# Altium integrated library TI Power Management Power Modules.IntLib: 831 symbols (part 19 of 44)
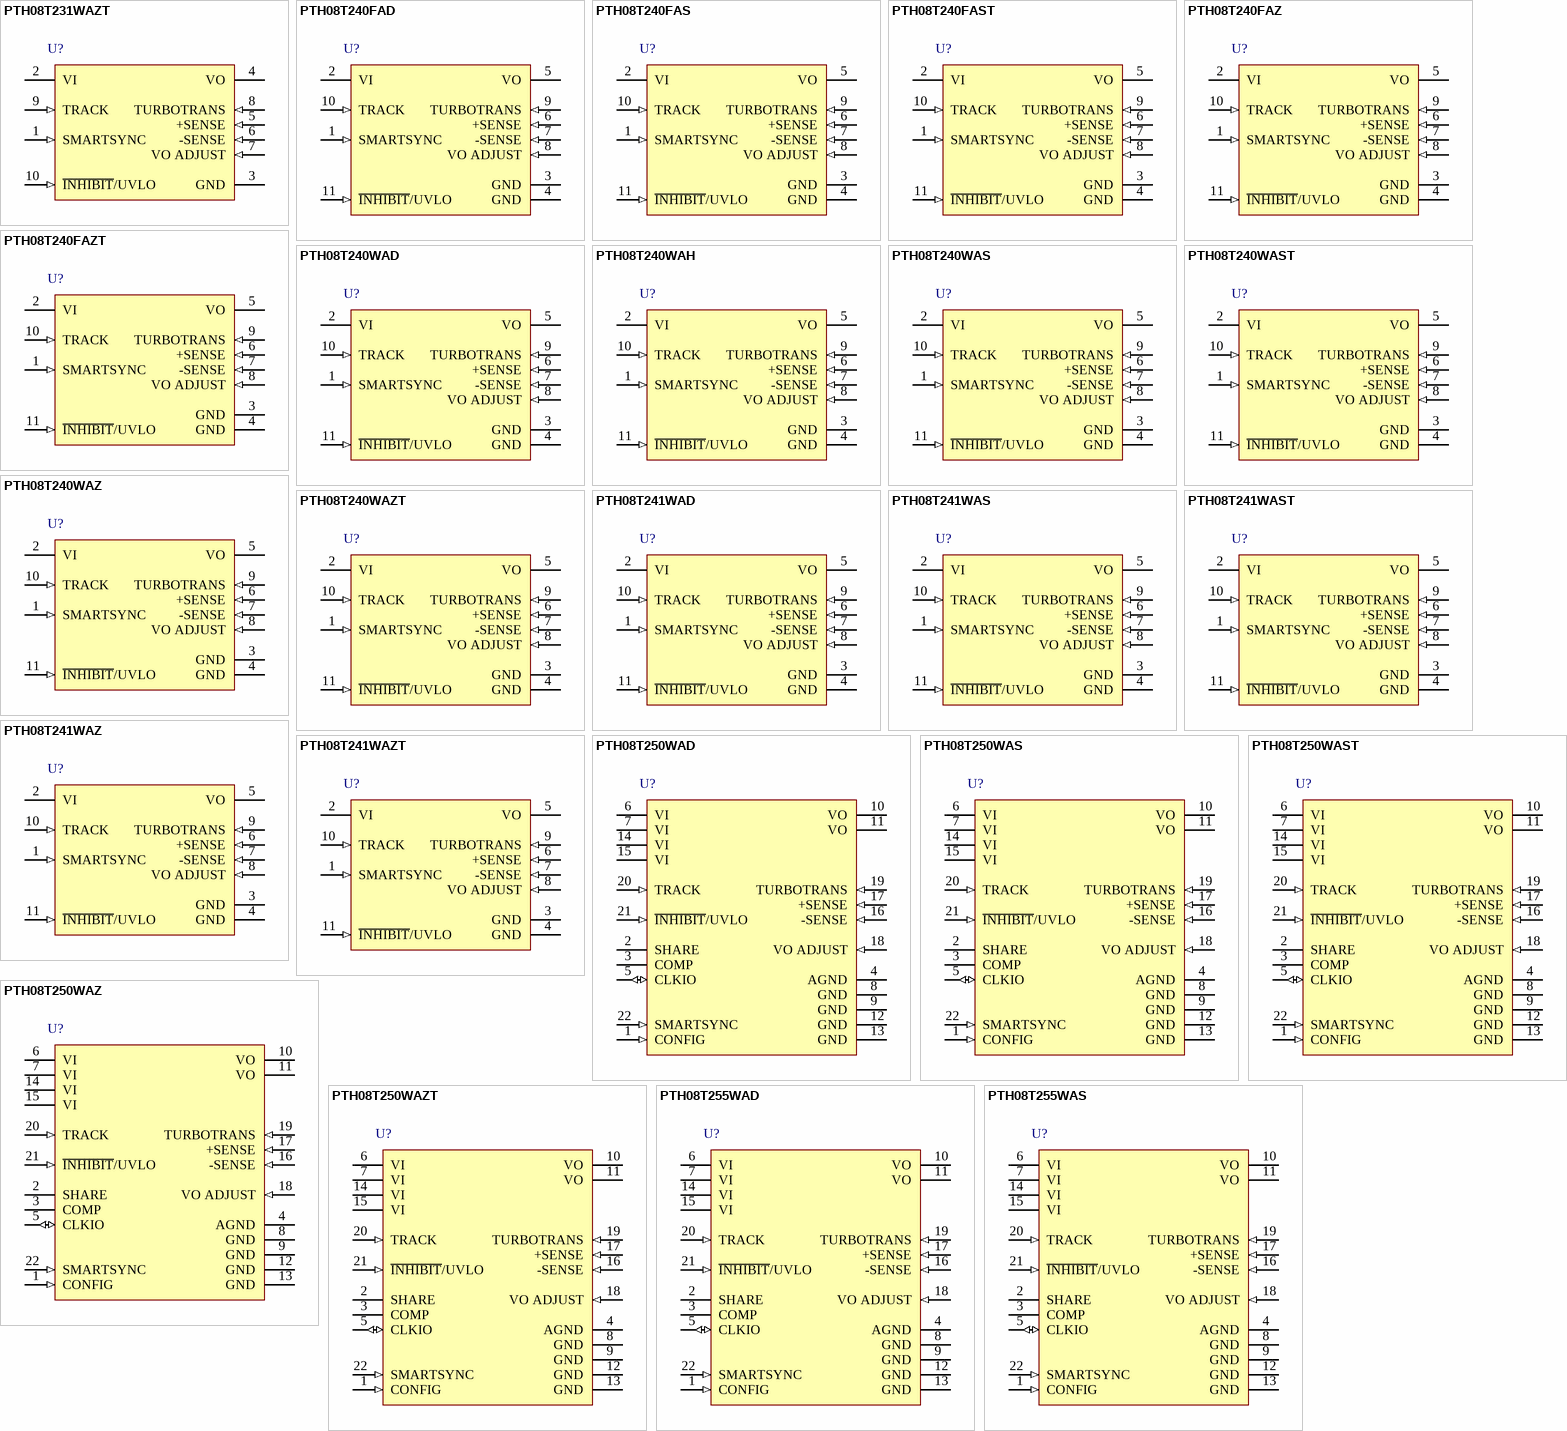
[diagram p41: symbols PTH08T231WAZT to PTH08T255WAS]

## PTH08T240WAST
designator U?
10 A, 4.5 to 14 V Input, Non-Isolated, Wide Output Adjustable Power Module with TurboTrans, -40 to 85 degC, 11-pin Module (EBT11); Manufacturer: Texas Instruments; PartNumber: PTH08T240WAST; Eco-Plan: TBD; Iout(Max)(A): 10; Regulated Outputs(#): 1; SubFamily: Non-Isolated POL; Vin(Max)(V): 14; Vin(Min)(V): 4.5; VO Adjustable: TRUE; Vout(Max)(V): 5.5; Vout(Min)(V): 0.69; DatasheetVersion: SLTS264J; PackageVersion: 4207366/E; PackageReference: EBT11; PackageDescription: 11-Pin Plastic Special Shape, Body 15.75 x 22.1 mm; Supplier 1: Digi-Key; Supplier Part Number 1: PTH08T240WAST-ND; Supplier 2: Newark; Supplier Part Number 2: 71K9428; Supplier 3: Mouser; Supplier Part Number 3: 595-PTH08T240WAST; Mounting Technology: Surface Mount; ComponentLink1Description: Manufacturer URL; ComponentLink1URL: http://www.ti.com/; ComponentLink2Description: Datasheet; ComponentLink2URL: http://www.ti.com/general/docs/lit/getliterature.tsp?genericPartNumber=PTH08T240W&fileType=pdf; ComponentLink3Description: Package Specification; ComponentLink3URL: http://www.ti.com/litv/pdf/mpds231d; ComponentLink4Description: URL Link1; ComponentLink4URL: Samples URL:http://www.ti.com/product/pth08t240w#samples
footprint TI-EBT11_V (Module, 11-Leads, Body 22.1x15.75mm)
pins: 1 SMARTSYNC (in) "This input pin sychronizes the switching frequency of the module to an external clock frequency. The SmartSync feature can be used to sychronize the switching fequency of multiple PTH08T220/221W modules, aiding EMI noise (See Datasheet)", 2 VI (power) "The positive input voltage power node to the module, which is referenced to common GND.", 3 GND (power) "This is the common ground connection for the VI and VO power connections. It is also the 0 Vdc reference for the control inputs.", 4 GND (power) "This is the common ground connection for the VI and VO power connections. It is also the 0 Vdc reference for the control inputs.", 5 VO (power) "The regulated positive power output with respect to GND.", 6 +SENSE (in) "The sense input allows the regulation circuit to compensate for voltage drop between the module and the load. For optimal voltage accuracy, +Sense must be connected to VO, very close to the load.", 7 -SENSE (in) "The sense input allows the regulation circuit to compensate for voltage drop between the module and the load. For optimal voltage accuracy -Sense must be connected to GND (pin4) very close to the module (within 10cm).", 8 VO ADJUST (in) "A 0.05 W 1% resistor must be directly connected between this pin and pin7 (-Sense) to set the output voltage to a value higher than 0.69V. The temperature stability of the resistor should be 100 ppm/degreesC (or better). The (See Datasheet)", 9 TURBOTRANS (in) "This input pin adjusts the transient response of the regulator. To activate the TurboTrans? feature, a 1%, 50mW resistor must be connected between this pin and pin 6 (+Sense) very close to the module. For a given value of (See Datasheet)", 10 TRACK (in) "This is an analog control input that enables the output voltage to follow an external voltage. This pin becomes active typically 20 ms after the input voltage has been applied, and allows direct control of the output voltage (See Datasheet)", 11 ~{INHIBIT}/UVLO (in) "The Inhibit pin is an open-collector/drain, negative logic input that is referenced to GND. Applying a low level ground signal to this input disables the module’s output and turns off the output voltage. When the Inhibit (See Datasheet)"

## PTH08T240WAZ
designator U?
10 A, 4.5 to 14 V Input, Non-Isolated, Wide Output Adjustable Power Module with TurboTrans, -40 to 85 degC, 11-pin Module (BBT11), Pb-Free (RoHS); Manufacturer: Texas Instruments; PartNumber: PTH08T240WAZ; Iout(Max)(A): 10; Regulated Outputs(#): 1; SubFamily: Non-Isolated POL; Vin(Max)(V): 14; Vin(Min)(V): 4.5; VO Adjustable: TRUE; Vout(Max)(V): 5.5; Vout(Min)(V): 0.69; DatasheetVersion: SLTS264J; PackageVersion: 4207716/E; PackageReference: BBT11; PackageDescription: 11-Pin Plastic Special Shape, Body 15.75 x 22.1 mm; Supplier 1: Digi-Key; Supplier Part Number 1: 296-20445-ND; Supplier 2: Farnell; Supplier Part Number 2: 1704192; Supplier 3: Newark; Supplier Part Number 3: 71K9429; Supplier 4: Mouser; Supplier Part Number 4: 595-PTH08T240WAZ; Eco-Plan: Pb-Free (RoHS); Mounting Technology: Surface Mount; ComponentLink1Description: Manufacturer URL; ComponentLink1URL: http://www.ti.com/; ComponentLink2Description: Datasheet; ComponentLink2URL: http://www.ti.com/general/docs/lit/getliterature.tsp?genericPartNumber=PTH08T240W&fileType=pdf; ComponentLink3Description: Package Specification; ComponentLink3URL: http://www.ti.com/lit/ml/mpds265d/mpds265d.pdf; ComponentLink4Description: URL Link1; ComponentLink4URL: Samples URL:http://www.ti.com/product/pth08t240w#samples
footprint TI-BBT11_V (11-Leads Double Sided Module, Body 22.1x15.75mm)
pins: 1 SMARTSYNC (in) "This input pin sychronizes the switching frequency of the module to an external clock frequency. The SmartSync feature can be used to sychronize the switching fequency of multiple PTH08T220/221W modules, aiding EMI noise (See Datasheet)", 2 VI (power) "The positive input voltage power node to the module, which is referenced to common GND.", 3 GND (power) "This is the common ground connection for the VI and VO power connections. It is also the 0 Vdc reference for the control inputs.", 4 GND (power) "This is the common ground connection for the VI and VO power connections. It is also the 0 Vdc reference for the control inputs.", 5 VO (power) "The regulated positive power output with respect to GND.", 6 +SENSE (in) "The sense input allows the regulation circuit to compensate for voltage drop between the module and the load. For optimal voltage accuracy, +Sense must be connected to VO, very close to the load.", 7 -SENSE (in) "The sense input allows the regulation circuit to compensate for voltage drop between the module and the load. For optimal voltage accuracy -Sense must be connected to GND (pin4) very close to the module (within 10cm).", 8 VO ADJUST (in) "A 0.05 W 1% resistor must be directly connected between this pin and pin7 (-Sense) to set the output voltage to a value higher than 0.69V. The temperature stability of the resistor should be 100 ppm/degreesC (or better). The (See Datasheet)", 9 TURBOTRANS (in) "This input pin adjusts the transient response of the regulator. To activate the TurboTrans? feature, a 1%, 50mW resistor must be connected between this pin and pin 6 (+Sense) very close to the module. For a given value of (See Datasheet)", 10 TRACK (in) "This is an analog control input that enables the output voltage to follow an external voltage. This pin becomes active typically 20 ms after the input voltage has been applied, and allows direct control of the output voltage (See Datasheet)", 11 ~{INHIBIT}/UVLO (in) "The Inhibit pin is an open-collector/drain, negative logic input that is referenced to GND. Applying a low level ground signal to this input disables the module’s output and turns off the output voltage. When the Inhibit (See Datasheet)"

## PTH08T240WAZT
designator U?
10 A, 4.5 to 14 V Input, Non-Isolated, Wide Output Adjustable Power Module with TurboTrans, -40 to 85 degC, 11-pin Module (BBT11), Pb-Free (RoHS); Manufacturer: Texas Instruments; PartNumber: PTH08T240WAZT; Iout(Max)(A): 10; Regulated Outputs(#): 1; SubFamily: Non-Isolated POL; Vin(Max)(V): 14; Vin(Min)(V): 4.5; VO Adjustable: TRUE; Vout(Max)(V): 5.5; Vout(Min)(V): 0.69; DatasheetVersion: SLTS264J; PackageVersion: 4207716/E; PackageReference: BBT11; PackageDescription: 11-Pin Plastic Special Shape, Body 15.75 x 22.1 mm; Supplier 1: Digi-Key; Supplier Part Number 1: 296-26312-2-ND; Supplier 2: Digi-Key; Supplier Part Number 2: 296-26312-1-ND; Supplier 3: Digi-Key; Supplier Part Number 3: 296-26312-6-ND; Supplier 4: Newark; Supplier Part Number 4: 71K9430; Supplier 5: Mouser; Supplier Part Number 5: 595-PTH08T240WAZT; Eco-Plan: Pb-Free (RoHS); Mounting Technology: Surface Mount; ComponentLink1Description: Manufacturer URL; ComponentLink1URL: http://www.ti.com/; ComponentLink2Description: Datasheet; ComponentLink2URL: http://www.ti.com/general/docs/lit/getliterature.tsp?genericPartNumber=PTH08T240W&fileType=pdf; ComponentLink3Description: Package Specification; ComponentLink3URL: http://www.ti.com/lit/ml/mpds265d/mpds265d.pdf; ComponentLink4Description: URL Link1; ComponentLink4URL: Samples URL:http://www.ti.com/product/tps55010#samples
footprint TI-BBT11_V (11-Leads Double Sided Module, Body 22.1x15.75mm)
pins: 1 SMARTSYNC (in) "This input pin sychronizes the switching frequency of the module to an external clock frequency. The SmartSync feature can be used to sychronize the switching fequency of multiple PTH08T220/221W modules, aiding EMI noise (See Datasheet)", 2 VI (power) "The positive input voltage power node to the module, which is referenced to common GND.", 3 GND (power) "This is the common ground connection for the VI and VO power connections. It is also the 0 Vdc reference for the control inputs.", 4 GND (power) "This is the common ground connection for the VI and VO power connections. It is also the 0 Vdc reference for the control inputs.", 5 VO (power) "The regulated positive power output with respect to GND.", 6 +SENSE (in) "The sense input allows the regulation circuit to compensate for voltage drop between the module and the load. For optimal voltage accuracy, +Sense must be connected to VO, very close to the load.", 7 -SENSE (in) "The sense input allows the regulation circuit to compensate for voltage drop between the module and the load. For optimal voltage accuracy -Sense must be connected to GND (pin4) very close to the module (within 10cm).", 8 VO ADJUST (in) "A 0.05 W 1% resistor must be directly connected between this pin and pin7 (-Sense) to set the output voltage to a value higher than 0.69V. The temperature stability of the resistor should be 100 ppm/degreesC (or better). The (See Datasheet)", 9 TURBOTRANS (in) "This input pin adjusts the transient response of the regulator. To activate the TurboTrans? feature, a 1%, 50mW resistor must be connected between this pin and pin 6 (+Sense) very close to the module. For a given value of (See Datasheet)", 10 TRACK (in) "This is an analog control input that enables the output voltage to follow an external voltage. This pin becomes active typically 20 ms after the input voltage has been applied, and allows direct control of the output voltage (See Datasheet)", 11 ~{INHIBIT}/UVLO (in) "The Inhibit pin is an open-collector/drain, negative logic input that is referenced to GND. Applying a low level ground signal to this input disables the module’s output and turns off the output voltage. When the Inhibit (See Datasheet)"

## PTH08T241WAD
designator U?
10 A, 4.5 to 14 V Input, Ceramic Cap Version, Non-Iso, Wide Output Adj Power Module with TurboTrans, -40 to 85 degC, 11-pin Module (EBS11), Pb-Free (RoHS); Manufacturer: Texas Instruments; PartNumber: PTH08T241WAD; Iout(Max)(A): 10; Regulated Outputs(#): 1; SubFamily: Non-Isolated POL; Vin(Max)(V): 14; Vin(Min)(V): 4.5; VO Adjustable: TRUE; Vout(Max)(V): 5.5; Vout(Min)(V): 0.69; DatasheetVersion: SLTS264J; PackageVersion: 4207365/D; PackageReference: EBS11; PackageDescription: 11-Pin Plastic Special Shape, Body 15.75 x 22.1 mm; Supplier 1: Digi-Key; Supplier Part Number 1: 296-21337-ND; Supplier 2: Newark; Supplier Part Number 2: 22M1622; Supplier 3: Mouser; Supplier Part Number 3: 595-PTH08T241WAD; Eco-Plan: Pb-Free (RoHS); Mounting Technology: Through Hole; ComponentLink1Description: Manufacturer URL; ComponentLink1URL: http://www.ti.com/; ComponentLink2Description: Datasheet; ComponentLink2URL: http://www.ti.com/general/docs/lit/getliterature.tsp?genericPartNumber=PTH08T241W&fileType=pdf; ComponentLink3Description: Package Specification; ComponentLink3URL: http://www.ti.com/litv/pdf/mpds230c; ComponentLink4Description: URL Link1; ComponentLink4URL: Samples URL:http://www.ti.com/product/pth08t241w#samples
footprint TI-EBS11_V (Module, 11-Leads, Body 22.1x15.75mm)
pins: 1 SMARTSYNC (in) "This input pin sychronizes the switching frequency of the module to an external clock frequency. The SmartSync feature can be used to sychronize the switching fequency of multiple PTH08T220/221W modules, aiding EMI noise (See Datasheet)", 2 VI (power) "The positive input voltage power node to the module, which is referenced to common GND.", 3 GND (power) "This is the common ground connection for the VI and VO power connections. It is also the 0 Vdc reference for the control inputs.", 4 GND (power) "This is the common ground connection for the VI and VO power connections. It is also the 0 Vdc reference for the control inputs.", 5 VO (power) "The regulated positive power output with respect to GND.", 6 +SENSE (in) "The sense input allows the regulation circuit to compensate for voltage drop between the module and the load. For optimal voltage accuracy, +Sense must be connected to VO, very close to the load.", 7 -SENSE (in) "The sense input allows the regulation circuit to compensate for voltage drop between the module and the load. For optimal voltage accuracy -Sense must be connected to GND (pin4) very close to the module (within 10cm).", 8 VO ADJUST (in) "A 0.05 W 1% resistor must be directly connected between this pin and pin7 (-Sense) to set the output voltage to a value higher than 0.69V. The temperature stability of the resistor should be 100 ppm/degreesC (or better). The (See Datasheet)", 9 TURBOTRANS (in) "This input pin adjusts the transient response of the regulator. To activate the TurboTrans? feature, a 1%, 50mW resistor must be connected between this pin and pin 6 (+Sense) very close to the module. For a given value of (See Datasheet)", 10 TRACK (in) "This is an analog control input that enables the output voltage to follow an external voltage. This pin becomes active typically 20 ms after the input voltage has been applied, and allows direct control of the output voltage (See Datasheet)", 11 ~{INHIBIT}/UVLO (in) "The Inhibit pin is an open-collector/drain, negative logic input that is referenced to GND. Applying a low level ground signal to this input disables the module’s output and turns off the output voltage. When the Inhibit (See Datasheet)"

## PTH08T241WAS
designator U?
10 A, 4.5 to 14 V Input, Ceramic Cap Version, Non-Iso, Wide Output Adj Power Module with TurboTrans, -40 to 85 degC, 11-pin Module (EBT11); Manufacturer: Texas Instruments; PartNumber: PTH08T241WAS; Eco-Plan: TBD; Iout(Max)(A): 10; Regulated Outputs(#): 1; SubFamily: Non-Isolated POL; Vin(Max)(V): 14; Vin(Min)(V): 4.5; VO Adjustable: TRUE; Vout(Max)(V): 5.5; Vout(Min)(V): 0.69; DatasheetVersion: SLTS264J; PackageVersion: 4207366/E; PackageReference: EBT11; PackageDescription: 11-Pin Plastic Special Shape, Body 15.75 x 22.1 mm; Supplier 1: Digi-Key; Supplier Part Number 1: 296-21338-ND; Supplier 2: Newark; Supplier Part Number 2: 22M1623; Supplier 3: Mouser; Supplier Part Number 3: 595-PTH08T241WAS; Mounting Technology: Surface Mount; ComponentLink1Description: Manufacturer URL; ComponentLink1URL: http://www.ti.com/; ComponentLink2Description: Datasheet; ComponentLink2URL: http://www.ti.com/general/docs/lit/getliterature.tsp?genericPartNumber=PTH08T241W&fileType=pdf; ComponentLink3Description: Package Specification; ComponentLink3URL: http://www.ti.com/litv/pdf/mpds231d; ComponentLink4Description: URL Link1; ComponentLink4URL: Samples URL:http://www.ti.com/product/pth08t241w#samples
footprint TI-EBT11_V (Module, 11-Leads, Body 22.1x15.75mm)
pins: 1 SMARTSYNC (in) "This input pin sychronizes the switching frequency of the module to an external clock frequency. The SmartSync feature can be used to sychronize the switching fequency of multiple PTH08T220/221W modules, aiding EMI noise (See Datasheet)", 2 VI (power) "The positive input voltage power node to the module, which is referenced to common GND.", 3 GND (power) "This is the common ground connection for the VI and VO power connections. It is also the 0 Vdc reference for the control inputs.", 4 GND (power) "This is the common ground connection for the VI and VO power connections. It is also the 0 Vdc reference for the control inputs.", 5 VO (power) "The regulated positive power output with respect to GND.", 6 +SENSE (in) "The sense input allows the regulation circuit to compensate for voltage drop between the module and the load. For optimal voltage accuracy, +Sense must be connected to VO, very close to the load.", 7 -SENSE (in) "The sense input allows the regulation circuit to compensate for voltage drop between the module and the load. For optimal voltage accuracy -Sense must be connected to GND (pin4) very close to the module (within 10cm).", 8 VO ADJUST (in) "A 0.05 W 1% resistor must be directly connected between this pin and pin7 (-Sense) to set the output voltage to a value higher than 0.69V. The temperature stability of the resistor should be 100 ppm/degreesC (or better). The (See Datasheet)", 9 TURBOTRANS (in) "This input pin adjusts the transient response of the regulator. To activate the TurboTrans? feature, a 1%, 50mW resistor must be connected between this pin and pin 6 (+Sense) very close to the module. For a given value of (See Datasheet)", 10 TRACK (in) "This is an analog control input that enables the output voltage to follow an external voltage. This pin becomes active typically 20 ms after the input voltage has been applied, and allows direct control of the output voltage (See Datasheet)", 11 ~{INHIBIT}/UVLO (in) "The Inhibit pin is an open-collector/drain, negative logic input that is referenced to GND. Applying a low level ground signal to this input disables the module’s output and turns off the output voltage. When the Inhibit (See Datasheet)"

## PTH08T241WAST
designator U?
10 A, 4.5 to 14 V Input, Ceramic Cap Version, Non-Iso, Wide Output Adj Power Module with TurboTrans, -40 to 85 degC, 11-pin Module (EBT11); Manufacturer: Texas Instruments; PartNumber: PTH08T241WAST; Eco-Plan: TBD; Iout(Max)(A): 10; Regulated Outputs(#): 1; SubFamily: Non-Isolated POL; Vin(Max)(V): 14; Vin(Min)(V): 4.5; VO Adjustable: TRUE; Vout(Max)(V): 5.5; Vout(Min)(V): 0.69; DatasheetVersion: SLTS264J; PackageVersion: 4207366/E; PackageReference: EBT11; PackageDescription: 11-Pin Plastic Special Shape, Body 15.75 x 22.1 mm; Supplier 1: Digi-Key; Supplier Part Number 1: PTH08T241WAST-ND; Supplier 2: Newark; Supplier Part Number 2: 22M1624; Supplier 3: Mouser; Supplier Part Number 3: 595-PTH08T241WAST; Mounting Technology: Surface Mount; ComponentLink1Description: Manufacturer URL; ComponentLink1URL: http://www.ti.com/; ComponentLink2Description: Datasheet; ComponentLink2URL: http://www.ti.com/general/docs/lit/getliterature.tsp?genericPartNumber=PTH08T241W&fileType=pdf; ComponentLink3Description: Package Specification; ComponentLink3URL: http://www.ti.com/litv/pdf/mpds231d; ComponentLink4Description: URL Link1; ComponentLink4URL: Samples URL:http://www.ti.com/product/pth08t241w#samples
footprint TI-EBT11_V (Module, 11-Leads, Body 22.1x15.75mm)
pins: 1 SMARTSYNC (in) "This input pin sychronizes the switching frequency of the module to an external clock frequency. The SmartSync feature can be used to sychronize the switching fequency of multiple PTH08T220/221W modules, aiding EMI noise (See Datasheet)", 2 VI (power) "The positive input voltage power node to the module, which is referenced to common GND.", 3 GND (power) "This is the common ground connection for the VI and VO power connections. It is also the 0 Vdc reference for the control inputs.", 4 GND (power) "This is the common ground connection for the VI and VO power connections. It is also the 0 Vdc reference for the control inputs.", 5 VO (power) "The regulated positive power output with respect to GND.", 6 +SENSE (in) "The sense input allows the regulation circuit to compensate for voltage drop between the module and the load. For optimal voltage accuracy, +Sense must be connected to VO, very close to the load.", 7 -SENSE (in) "The sense input allows the regulation circuit to compensate for voltage drop between the module and the load. For optimal voltage accuracy -Sense must be connected to GND (pin4) very close to the module (within 10cm).", 8 VO ADJUST (in) "A 0.05 W 1% resistor must be directly connected between this pin and pin7 (-Sense) to set the output voltage to a value higher than 0.69V. The temperature stability of the resistor should be 100 ppm/degreesC (or better). The (See Datasheet)", 9 TURBOTRANS (in) "This input pin adjusts the transient response of the regulator. To activate the TurboTrans? feature, a 1%, 50mW resistor must be connected between this pin and pin 6 (+Sense) very close to the module. For a given value of (See Datasheet)", 10 TRACK (in) "This is an analog control input that enables the output voltage to follow an external voltage. This pin becomes active typically 20 ms after the input voltage has been applied, and allows direct control of the output voltage (See Datasheet)", 11 ~{INHIBIT}/UVLO (in) "The Inhibit pin is an open-collector/drain, negative logic input that is referenced to GND. Applying a low level ground signal to this input disables the module’s output and turns off the output voltage. When the Inhibit (See Datasheet)"

## PTH08T241WAZ
designator U?
10 A, 4.5 to 14 V Input, Ceramic Cap Version, Non-Iso, Wide Output Adj Power Module with TurboTrans, -40 to 85 degC, 11-pin Module (BBT11), Pb-Free (RoHS); Manufacturer: Texas Instruments; PartNumber: PTH08T241WAZ; Iout(Max)(A): 10; Regulated Outputs(#): 1; SubFamily: Non-Isolated POL; Vin(Max)(V): 14; Vin(Min)(V): 4.5; VO Adjustable: TRUE; Vout(Max)(V): 5.5; Vout(Min)(V): 0.69; DatasheetVersion: SLTS264J; PackageVersion: 4207716/E; PackageReference: BBT11; PackageDescription: 11-Pin Plastic Special Shape, Body 15.75 x 22.1 mm; Supplier 1: Digi-Key; Supplier Part Number 1: 296-21339-ND; Supplier 2: Newark; Supplier Part Number 2: 22M1625; Supplier 3: Mouser; Supplier Part Number 3: 595-PTH08T241WAZ; Eco-Plan: Pb-Free (RoHS); Mounting Technology: Surface Mount; ComponentLink1Description: Manufacturer URL; ComponentLink1URL: http://www.ti.com/; ComponentLink2Description: Datasheet; ComponentLink2URL: http://www.ti.com/general/docs/lit/getliterature.tsp?genericPartNumber=PTH08T241W&fileType=pdf; ComponentLink3Description: Package Specification; ComponentLink3URL: http://www.ti.com/lit/ml/mpds265d/mpds265d.pdf; ComponentLink4Description: URL Link1; ComponentLink4URL: Samples URL:http://www.ti.com/product/pth08t241w#samples
footprint TI-BBT11_V (11-Leads Double Sided Module, Body 22.1x15.75mm)
pins: 1 SMARTSYNC (in) "This input pin sychronizes the switching frequency of the module to an external clock frequency. The SmartSync feature can be used to sychronize the switching fequency of multiple PTH08T220/221W modules, aiding EMI noise (See Datasheet)", 2 VI (power) "The positive input voltage power node to the module, which is referenced to common GND.", 3 GND (power) "This is the common ground connection for the VI and VO power connections. It is also the 0 Vdc reference for the control inputs.", 4 GND (power) "This is the common ground connection for the VI and VO power connections. It is also the 0 Vdc reference for the control inputs.", 5 VO (power) "The regulated positive power output with respect to GND.", 6 +SENSE (in) "The sense input allows the regulation circuit to compensate for voltage drop between the module and the load. For optimal voltage accuracy, +Sense must be connected to VO, very close to the load.", 7 -SENSE (in) "The sense input allows the regulation circuit to compensate for voltage drop between the module and the load. For optimal voltage accuracy -Sense must be connected to GND (pin4) very close to the module (within 10cm).", 8 VO ADJUST (in) "A 0.05 W 1% resistor must be directly connected between this pin and pin7 (-Sense) to set the output voltage to a value higher than 0.69V. The temperature stability of the resistor should be 100 ppm/degreesC (or better). The (See Datasheet)", 9 TURBOTRANS (in) "This input pin adjusts the transient response of the regulator. To activate the TurboTrans? feature, a 1%, 50mW resistor must be connected between this pin and pin 6 (+Sense) very close to the module. For a given value of (See Datasheet)", 10 TRACK (in) "This is an analog control input that enables the output voltage to follow an external voltage. This pin becomes active typically 20 ms after the input voltage has been applied, and allows direct control of the output voltage (See Datasheet)", 11 ~{INHIBIT}/UVLO (in) "The Inhibit pin is an open-collector/drain, negative logic input that is referenced to GND. Applying a low level ground signal to this input disables the module’s output and turns off the output voltage. When the Inhibit (See Datasheet)"

## PTH08T241WAZT
designator U?
10 A, 4.5 to 14 V Input, Ceramic Cap Version, Non-Iso, Wide Output Adj Power Module with TurboTrans, -40 to 85 degC, 11-pin Module (BBT11), Pb-Free (RoHS); Manufacturer: Texas Instruments; PartNumber: PTH08T241WAZT; Iout(Max)(A): 10; Regulated Outputs(#): 1; SubFamily: 1 W & 2 W Miniature; Vin(Max)(V): 14; Vin(Min)(V): 4.5; VO Adjustable: TRUE; Vout(Max)(V): 5.5; Vout(Min)(V): 0.69; DatasheetVersion: SLTS264J; PackageVersion: 4207716/E; PackageReference: BBT11; PackageDescription: 11-Pin Plastic Special Shape, Body 15.75 x 22.1 mm; Supplier 1: Digi-Key; Supplier Part Number 1: PTH08T241WAZT-ND; Supplier 2: Newark; Supplier Part Number 2: 22M1626; Supplier 3: Mouser; Supplier Part Number 3: 595-PTH08T241WAZT; Eco-Plan: Pb-Free (RoHS); Mounting Technology: Surface Mount; ComponentLink1Description: Manufacturer URL; ComponentLink1URL: http://www.ti.com/; ComponentLink2Description: Datasheet; ComponentLink2URL: http://www.ti.com/general/docs/lit/getliterature.tsp?genericPartNumber=PTH08T241W&fileType=pdf; ComponentLink3Description: Package Specification; ComponentLink3URL: http://www.ti.com/lit/ml/mpds265d/mpds265d.pdf; ComponentLink4Description: URL Link1; ComponentLink4URL: Samples URL:http://www.ti.com/product/tps55010#samples
footprint TI-BBT11_V (11-Leads Double Sided Module, Body 22.1x15.75mm)
pins: 1 SMARTSYNC (in) "This input pin sychronizes the switching frequency of the module to an external clock frequency. The SmartSync feature can be used to sychronize the switching fequency of multiple PTH08T220/221W modules, aiding EMI noise (See Datasheet)", 2 VI (power) "The positive input voltage power node to the module, which is referenced to common GND.", 3 GND (power) "This is the common ground connection for the VI and VO power connections. It is also the 0 Vdc reference for the control inputs.", 4 GND (power) "This is the common ground connection for the VI and VO power connections. It is also the 0 Vdc reference for the control inputs.", 5 VO (power) "The regulated positive power output with respect to GND.", 6 +SENSE (in) "The sense input allows the regulation circuit to compensate for voltage drop between the module and the load. For optimal voltage accuracy, +Sense must be connected to VO, very close to the load.", 7 -SENSE (in) "The sense input allows the regulation circuit to compensate for voltage drop between the module and the load. For optimal voltage accuracy -Sense must be connected to GND (pin4) very close to the module (within 10cm).", 8 VO ADJUST (in) "A 0.05 W 1% resistor must be directly connected between this pin and pin7 (-Sense) to set the output voltage to a value higher than 0.69V. The temperature stability of the resistor should be 100 ppm/degreesC (or better). The (See Datasheet)", 9 TURBOTRANS (in) "This input pin adjusts the transient response of the regulator. To activate the TurboTrans? feature, a 1%, 50mW resistor must be connected between this pin and pin 6 (+Sense) very close to the module. For a given value of (See Datasheet)", 10 TRACK (in) "This is an analog control input that enables the output voltage to follow an external voltage. This pin becomes active typically 20 ms after the input voltage has been applied, and allows direct control of the output voltage (See Datasheet)", 11 ~{INHIBIT}/UVLO (in) "The Inhibit pin is an open-collector/drain, negative logic input that is referenced to GND. Applying a low level ground signal to this input disables the module’s output and turns off the output voltage. When the Inhibit (See Datasheet)"

## PTH08T250WAD
designator U?
50 A, 4.5 to 14 V Input, Non-Isolated, Wide Output, Adjustable Power Module with TurboTrans, -40 to 85 degC, 22-pin Module (ECT22), Pb-Free (RoHS); Manufacturer: Texas Instruments; PartNumber: PTH08T250WAD; Iout(Max)(A): 50; Regulated Outputs(#): 1; SubFamily: Non-Isolated POL; Vin(Max)(V): 14; Vin(Min)(V): 4.5; VO Adjustable: TRUE; Vout(Max)(V): 3.6; Vout(Min)(V): 0.7; DatasheetVersion: SLTS278G; PackageVersion: 4208554/C; PackageReference: ECT22; PackageDescription: 22-Pin Plastic Special Shape, Body 25.91 x 38.61 mm; Supplier 1: Digi-Key; Supplier Part Number 1: 296-22037-ND; Supplier 2: Newark; Supplier Part Number 2: 53M3841; Supplier 3: Mouser; Supplier Part Number 3: 595-PTH08T250WAD; Eco-Plan: Pb-Free (RoHS); Mounting Technology: Through Hole; ComponentLink1Description: Manufacturer URL; ComponentLink1URL: http://www.ti.com/; ComponentLink2Description: Datasheet; ComponentLink2URL: http://www.ti.com/general/docs/lit/getliterature.tsp?genericPartNumber=PTH08T250W&fileType=pdf; ComponentLink3Description: Package Specification; ComponentLink3URL: http://www.ti.com/litv/pdf/mpds323b; ComponentLink4Description: URL Link1; ComponentLink4URL: Samples URL:http://www.ti.com/product/pth08t250w#samples
footprint TI-ECT22_V (Module, 22-Leads, Body 38.61x25.91mm)
pins: 1 CONFIG (in) "When two modules are connected together to share load current one must be configured as the MASTER and the other as the SLAVE. This pin is used to configure the module as either MASTER or SLAVE. To configure the module as (See Datasheet)", 2 SHARE "This pin is used when connecting two modules together to share load current. When two modules are sharing current the Share pin of both modules must be connected together. When not sharing current, this pin MUST be left open (See Datasheet)", 3 COMP "This pin is used when connecting two modules together to share load current. When two modules are sharing current the Comp pin of both modules must be connected together. When not sharing current, this pin MUST be left open (See Datasheet)", 4 AGND (power) "This pin is the internal analog ground of the module. This pin provides the return path for the VOAdjust resistor (RSET). When two modules are sharing current the AGND pin of both modules must be connected together. Also, (See Datasheet)", 5 CLKIO (io) "This pin is used when connecting two modules together to share load current. When two modules are sharing current the CLKIO pin of both modules must be connected together. When not sharing current, this pin MUST be left open (See Datasheet)", 6 VI (power) "The positive input voltage power node to the module, which is referenced to common GND.", 7 VI (power) "The positive input voltage power node to the module, which is referenced to common GND.", 8 GND (power) "This is the common ground connection for the VI and VO power connections. It is also the 0 Vdc reference for the control inputs.", 9 GND (power) "This is the common ground connection for the VI and VO power connections. It is also the 0 Vdc reference for the control inputs.", 10 VO (power) "The regulated positive power output with respect to GND.", 11 VO (power) "The regulated positive power output with respect to GND.", 12 GND (power) "This is the common ground connection for the VI and VO power connections. It is also the 0 Vdc reference for the control inputs.", 13 GND (power) "This is the common ground connection for the VI and VO power connections. It is also the 0 Vdc reference for the control inputs.", 14 VI (power) "The positive input voltage power node to the module, which is referenced to common GND.", 15 VI (power) "The positive input voltage power node to the module, which is referenced to common GND.", 16 -SENSE (in) "The sense input allows the regulation circuit to compensate for voltage drop between the module and the load. The -Sense pin should always be connected to GND, either at the load for optimal voltage accuracy, or at the (See Datasheet)", 17 +SENSE (in) "The sense input allows the regulation circuit to compensate for voltage drop between the module and the load. The +Sense pin should always be connected to VO, either at the load for optimal voltage accuracy, or at the module (See Datasheet)", 18 VO ADJUST (in) "A 0.05 W 1% resistor must be directly connected between this pin and pin4 (AGND) to set the output voltage to a value higher than 3.0V. The temperature stability of the resistor should be 100 ppm/degreesC (or better). The (See Datasheet)", 19 TURBOTRANS (in) "This input pin adjusts the transient response of the regulator. To activate the TurboTrans feature, a 1%, 50mW resistor, must be connected between this pin and pin 17 (+Sense) very close to the module. For a given value of (See Datasheet)", 20 TRACK (in) "This is an analog control input that enables the output voltage to follow an external voltage. This pin becomes active typically 25 ms after a valid input voltage has been applied, and allows direct control of the output (See Datasheet)", 21 ~{INHIBIT}/UVLO (in) "The Inhibit pin is an open-collector/drain, negative logic input that is referenced to GND. Applying a low level ground signal to this input disables the module’s output and turns off the output voltage. When the Inhibit (See Datasheet)", 22 SMARTSYNC (in) "This input pin sychronizes the switching frequency of the module to an external clock frequency. The SmartSync feature can be used to sychronize the switching frequency of multiple modules, aiding EMI noise suppression (See Datasheet)"

## PTH08T250WAS
designator U?
50 A, 4.5 to 14 V Input, Non-Isolated, Wide Output, Adjustable Power Module with TurboTrans, -40 to 85 degC, 22-pin Module (ECU22); Manufacturer: Texas Instruments; PartNumber: PTH08T250WAS; Eco-Plan: TBD; Iout(Max)(A): 50; Regulated Outputs(#): 1; SubFamily: Non-Isolated POL; Vin(Max)(V): 14; Vin(Min)(V): 4.5; VO Adjustable: TRUE; Vout(Max)(V): 3.6; Vout(Min)(V): 0.7; DatasheetVersion: SLTS278G; PackageVersion: 4208555/D; PackageReference: ECU22; PackageDescription: 22-Pin Plastic Special Shape, Body 25.91 x 38.61 mm; Supplier 1: Digi-Key; Supplier Part Number 1: 296-22038-ND; Supplier 2: Newark; Supplier Part Number 2: 53M3842; Supplier 3: Mouser; Supplier Part Number 3: 595-PTH08T250WAS; Mounting Technology: Surface Mount; ComponentLink1Description: Manufacturer URL; ComponentLink1URL: http://www.ti.com/; ComponentLink2Description: Datasheet; ComponentLink2URL: http://www.ti.com/general/docs/lit/getliterature.tsp?genericPartNumber=PTH08T250W&fileType=pdf; ComponentLink3Description: Package Specification; ComponentLink3URL: http://www.ti.com/litv/pdf/mpds324c; ComponentLink4Description: URL Link1; ComponentLink4URL: Samples URL:http://www.ti.com/product/pth08t250w#samples
footprint TI-ECU22_V (Module, 22-Leads, Body 38.61x25.91mm)
pins: 1 CONFIG (in) "When two modules are connected together to share load current one must be configured as the MASTER and the other as the SLAVE. This pin is used to configure the module as either MASTER or SLAVE. To configure the module as (See Datasheet)", 2 SHARE "This pin is used when connecting two modules together to share load current. When two modules are sharing current the Share pin of both modules must be connected together. When not sharing current, this pin MUST be left open (See Datasheet)", 3 COMP "This pin is used when connecting two modules together to share load current. When two modules are sharing current the Comp pin of both modules must be connected together. When not sharing current, this pin MUST be left open (See Datasheet)", 4 AGND (power) "This pin is the internal analog ground of the module. This pin provides the return path for the VOAdjust resistor (RSET). When two modules are sharing current the AGND pin of both modules must be connected together. Also, (See Datasheet)", 5 CLKIO (io) "This pin is used when connecting two modules together to share load current. When two modules are sharing current the CLKIO pin of both modules must be connected together. When not sharing current, this pin MUST be left open (See Datasheet)", 6 VI (power) "The positive input voltage power node to the module, which is referenced to common GND.", 7 VI (power) "The positive input voltage power node to the module, which is referenced to common GND.", 8 GND (power) "This is the common ground connection for the VI and VO power connections. It is also the 0 Vdc reference for the control inputs.", 9 GND (power) "This is the common ground connection for the VI and VO power connections. It is also the 0 Vdc reference for the control inputs.", 10 VO (power) "The regulated positive power output with respect to GND.", 11 VO (power) "The regulated positive power output with respect to GND.", 12 GND (power) "This is the common ground connection for the VI and VO power connections. It is also the 0 Vdc reference for the control inputs.", 13 GND (power) "This is the common ground connection for the VI and VO power connections. It is also the 0 Vdc reference for the control inputs.", 14 VI (power) "The positive input voltage power node to the module, which is referenced to common GND.", 15 VI (power) "The positive input voltage power node to the module, which is referenced to common GND.", 16 -SENSE (in) "The sense input allows the regulation circuit to compensate for voltage drop between the module and the load. The -Sense pin should always be connected to GND, either at the load for optimal voltage accuracy, or at the (See Datasheet)", 17 +SENSE (in) "The sense input allows the regulation circuit to compensate for voltage drop between the module and the load. The +Sense pin should always be connected to VO, either at the load for optimal voltage accuracy, or at the module (See Datasheet)", 18 VO ADJUST (in) "A 0.05 W 1% resistor must be directly connected between this pin and pin4 (AGND) to set the output voltage to a value higher than 3.0V. The temperature stability of the resistor should be 100 ppm/degreesC (or better). The (See Datasheet)", 19 TURBOTRANS (in) "This input pin adjusts the transient response of the regulator. To activate the TurboTrans feature, a 1%, 50mW resistor, must be connected between this pin and pin 17 (+Sense) very close to the module. For a given value of (See Datasheet)", 20 TRACK (in) "This is an analog control input that enables the output voltage to follow an external voltage. This pin becomes active typically 25 ms after a valid input voltage has been applied, and allows direct control of the output (See Datasheet)", 21 ~{INHIBIT}/UVLO (in) "The Inhibit pin is an open-collector/drain, negative logic input that is referenced to GND. Applying a low level ground signal to this input disables the module’s output and turns off the output voltage. When the Inhibit (See Datasheet)", 22 SMARTSYNC (in) "This input pin sychronizes the switching frequency of the module to an external clock frequency. The SmartSync feature can be used to sychronize the switching frequency of multiple modules, aiding EMI noise suppression (See Datasheet)"

## PTH08T250WAST
designator U?
50 A, 4.5 to 14 V Input, Non-Isolated, Wide Output, Adjustable Power Module with TurboTrans, -40 to 85 degC, 22-pin Module (ECU22); Manufacturer: Texas Instruments; PartNumber: PTH08T250WAST; Eco-Plan: TBD; Iout(Max)(A): 50; Regulated Outputs(#): 1; SubFamily: Non-Isolated POL; Vin(Max)(V): 14; Vin(Min)(V): 4.5; VO Adjustable: TRUE; Vout(Max)(V): 3.6; Vout(Min)(V): 0.7; DatasheetVersion: SLTS278G; PackageVersion: 4208555/D; PackageReference: ECU22; PackageDescription: 22-Pin Plastic Special Shape, Body 25.91 x 38.61 mm; Supplier 1: Digi-Key; Supplier Part Number 1: PTH08T250WAST-ND; Supplier 2: Newark; Supplier Part Number 2: 53M3843; Supplier 3: Mouser; Supplier Part Number 3: 595-PTH08T250WAST; Mounting Technology: Surface Mount; ComponentLink1Description: Manufacturer URL; ComponentLink1URL: http://www.ti.com/; ComponentLink2Description: Datasheet; ComponentLink2URL: http://www.ti.com/general/docs/lit/getliterature.tsp?genericPartNumber=PTH08T250W&fileType=pdf; ComponentLink3Description: Package Specification; ComponentLink3URL: http://www.ti.com/litv/pdf/mpds324c; ComponentLink4Description: URL Link1; ComponentLink4URL: Samples URL:http://www.ti.com/product/pth08t250w#samples
footprint TI-ECU22_V (Module, 22-Leads, Body 38.61x25.91mm)
pins: 1 CONFIG (in) "When two modules are connected together to share load current one must be configured as the MASTER and the other as the SLAVE. This pin is used to configure the module as either MASTER or SLAVE. To configure the module as (See Datasheet)", 2 SHARE "This pin is used when connecting two modules together to share load current. When two modules are sharing current the Share pin of both modules must be connected together. When not sharing current, this pin MUST be left open (See Datasheet)", 3 COMP "This pin is used when connecting two modules together to share load current. When two modules are sharing current the Comp pin of both modules must be connected together. When not sharing current, this pin MUST be left open (See Datasheet)", 4 AGND (power) "This pin is the internal analog ground of the module. This pin provides the return path for the VOAdjust resistor (RSET). When two modules are sharing current the AGND pin of both modules must be connected together. Also, (See Datasheet)", 5 CLKIO (io) "This pin is used when connecting two modules together to share load current. When two modules are sharing current the CLKIO pin of both modules must be connected together. When not sharing current, this pin MUST be left open (See Datasheet)", 6 VI (power) "The positive input voltage power node to the module, which is referenced to common GND.", 7 VI (power) "The positive input voltage power node to the module, which is referenced to common GND.", 8 GND (power) "This is the common ground connection for the VI and VO power connections. It is also the 0 Vdc reference for the control inputs.", 9 GND (power) "This is the common ground connection for the VI and VO power connections. It is also the 0 Vdc reference for the control inputs.", 10 VO (power) "The regulated positive power output with respect to GND.", 11 VO (power) "The regulated positive power output with respect to GND.", 12 GND (power) "This is the common ground connection for the VI and VO power connections. It is also the 0 Vdc reference for the control inputs.", 13 GND (power) "This is the common ground connection for the VI and VO power connections. It is also the 0 Vdc reference for the control inputs.", 14 VI (power) "The positive input voltage power node to the module, which is referenced to common GND.", 15 VI (power) "The positive input voltage power node to the module, which is referenced to common GND.", 16 -SENSE (in) "The sense input allows the regulation circuit to compensate for voltage drop between the module and the load. The -Sense pin should always be connected to GND, either at the load for optimal voltage accuracy, or at the (See Datasheet)", 17 +SENSE (in) "The sense input allows the regulation circuit to compensate for voltage drop between the module and the load. The +Sense pin should always be connected to VO, either at the load for optimal voltage accuracy, or at the module (See Datasheet)", 18 VO ADJUST (in) "A 0.05 W 1% resistor must be directly connected between this pin and pin4 (AGND) to set the output voltage to a value higher than 3.0V. The temperature stability of the resistor should be 100 ppm/degreesC (or better). The (See Datasheet)", 19 TURBOTRANS (in) "This input pin adjusts the transient response of the regulator. To activate the TurboTrans feature, a 1%, 50mW resistor, must be connected between this pin and pin 17 (+Sense) very close to the module. For a given value of (See Datasheet)", 20 TRACK (in) "This is an analog control input that enables the output voltage to follow an external voltage. This pin becomes active typically 25 ms after a valid input voltage has been applied, and allows direct control of the output (See Datasheet)", 21 ~{INHIBIT}/UVLO (in) "The Inhibit pin is an open-collector/drain, negative logic input that is referenced to GND. Applying a low level ground signal to this input disables the module’s output and turns off the output voltage. When the Inhibit (See Datasheet)", 22 SMARTSYNC (in) "This input pin sychronizes the switching frequency of the module to an external clock frequency. The SmartSync feature can be used to sychronize the switching frequency of multiple modules, aiding EMI noise suppression (See Datasheet)"